# EAGLE library part HEADER17X0.1IN (library berkeley-epic)
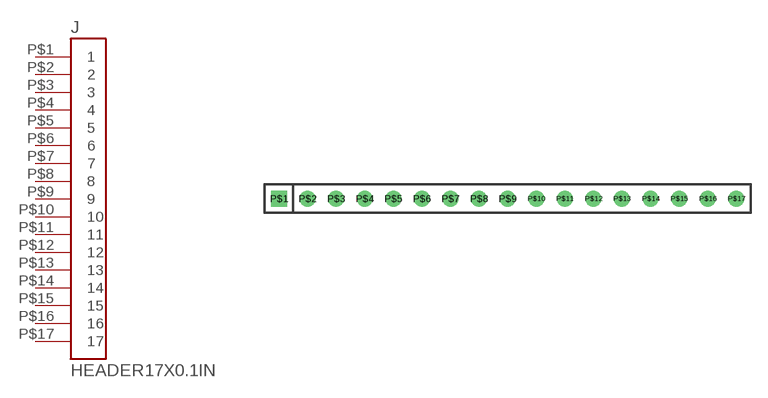
[diagram p3: symbol with the pads of HEADER17X0.1IN; footprint HEADER17X0.1IN]

Designator prefix J

## HEADER17X0.1IN  [HEADER17X0.1IN]
P$1  1
P$2  2
P$3  3
P$4  4
P$5  5
P$6  6
P$7  7
P$8  8
P$9  9
P$10  10
P$11  11
P$12  12
P$13  13
P$14  14
P$15  15
P$16  16
P$17  17

## Footprint HEADER17X0.1IN (pad centres in mm)
drill 0.9 square: P$1 -20.32,0
drill 0.9: P$2 -17.78,0; P$3 -15.24,0; P$4 -12.7,0; P$5 -10.16,0; P$6 -7.62,0; P$7 -5.08,0; P$8 -2.54,0; P$9 0,0; P$10 2.54,0; P$11 5.08,0; P$12 7.62,0; P$13 10.16,0; P$14 12.7,0; P$15 15.24,0; P$16 17.78,0; P$17 20.32,0